# EAGLE library part DB15-HD (library DConnectors)
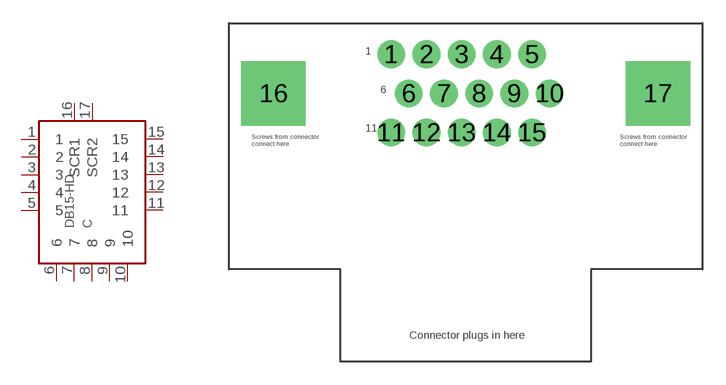
[diagram p0: symbol with the pads of DB15-HD; footprint DB15-HD]

Designator prefix C

## DB15-HD  [DB15-HD]
1  1
2  2
3  3
4  4
5  5
6  6
7  7
8  8
9  9
10  10
11  11
12  12
13  13
14  14
15  15
16  SCR1
17  SCR2

## Footprint DB15-HD (pad centres in mm)
TE Connectivity AMP Connectors 1-1734530-1
drill 1.2: 1 -10.3,2.54; 2 -8.01,2.54; 3 -5.72,2.54; 4 -3.43,2.54; 5 -1.14,2.54; 6 -9.16,0; 7 -6.87,0; 8 -4.58,0; 9 -2.29,0; 10 0,0; 11 -10.3,-2.54; 12 -8.01,-2.54; 13 -5.72,-2.54; 14 -3.43,-2.54; 15 -1.14,-2.54
drill 3.18 square: 16 -17.95,0; 17 7.04,0